# EAGLE library part DRV8835 (library ct-bot)
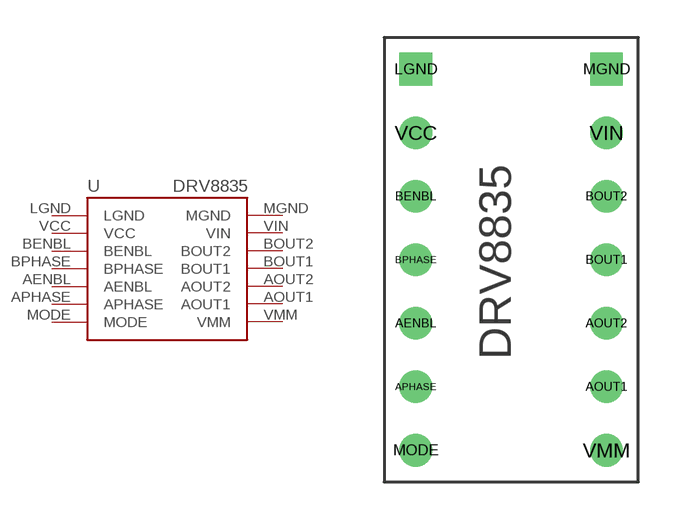
[diagram p4: symbol with the pads of DRV8835; footprint DRV8835]

Designator prefix -

## DRV8835THROUGHHOLE  [DRV8835]
AENBL  AENBL
AOUT1  AOUT1
AOUT2  AOUT2
APHASE  APHASE
BENBL  BENBL
BOUT1  BOUT1
BOUT2  BOUT2
BPHASE  BPHASE
LGND  LGND
MGND  MGND
MODE  MODE
VCC  VCC
VIN  VIN
VMM  VMM

## Footprint DRV8835 (pad centres in mm)
DRV8835 Dual Motor Driver Carrier Pololu breakout board for TI’s DRV8835 dual motor driver.
drill 0.8: AENBL 1.27,6.35; AOUT1 8.89,3.81; AOUT2 8.89,6.35; APHASE 1.27,3.81; BENBL 1.27,11.43; BOUT1 8.89,8.89; BOUT2 8.89,11.43; BPHASE 1.27,8.89; MODE 1.27,1.27; VCC 1.27,13.97; VIN 8.89,13.97; VMM 8.89,1.27
drill 0.8 square: LGND 1.27,16.51; MGND 8.89,16.51